# Altium schematic symbol library 2019-03-18_23-51-11.SchLib: 2 symbols
Pins are listed as number, name and electrical type; pins without a type are passive.

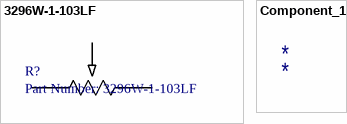
[diagram p0: symbols 3296W-1-103LF to Component_1]

## 3296W-1-103LF
designator R?, comment Part Number: 3296W-1-103LF
No Description Available; Vendor: Bourns Electronics; Built_By: EMA_UL_Team; Manufacturer_Part_Number: 3296W-1-103LF; Copyright: Copyright (C) 2018 Accelerated Designs. All rights reserved; RefDes: RefDes; Type: DEV; Value: Value
footprint POT_3296W
pins: 1, 2, 3

## Component_1
designator *